# Altium schematic symbol library 2020-04-09_17-38-49.SchLib: 2 symbols
Pins are listed as number, name and electrical type; pins without a type are passive.

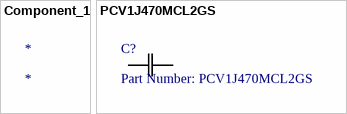
[diagram p0: symbols Component_1 to PCV1J470MCL2GS]

## Component_1
designator *

## PCV1J470MCL2GS
designator C?, comment Part Number: PCV1J470MCL2GS
No Description Available; Vendor: Nichicon; Built_By: EMA_Cory; Type: DEV; Manufacturer_Part_Number: PCV1J470MCL2GS; Copyright: Copyright (C) 2018 Accelerated Designs. All rights reserved; RefDes: RefDes; Value: Value
footprint CAP_PC_10X10
pins: 1, 2